# Altium footprint library Footprint.PcbLib: 155 footprints (part 7 of 10)
Each footprint in its own frame and in the unit in brackets; x right, y up, seen from the top. Pads: shape width x height; smd on the part's side, far side on the other; paste and mask are expansions set on the pad; w line width, h text height; cw(c..) or ccw(c..) is an arc to the next point about the centre after c.
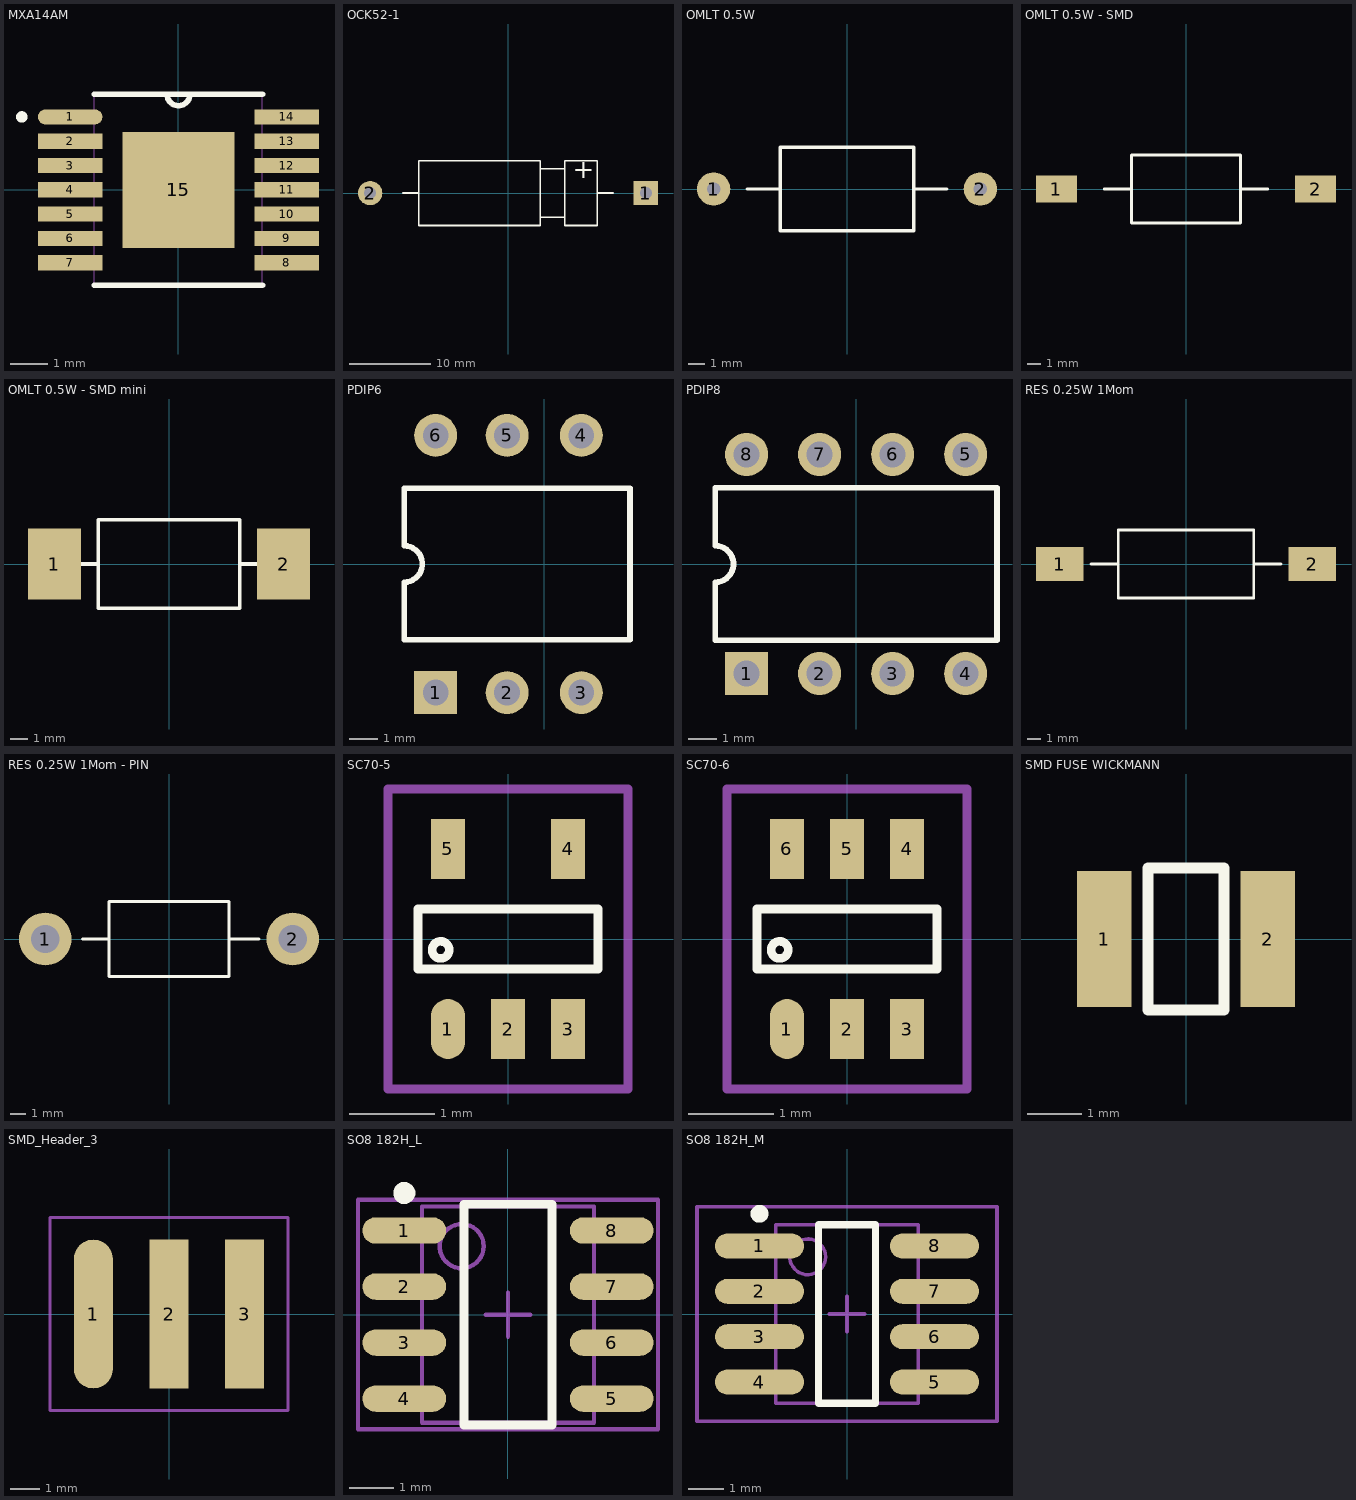
[diagram p6: the footprints below, top view; thin cyan lines are the x and y axes]

## MXA14AM [mil]
pads (15):
  oval 68x16 smd mask+2: 1(-114,76.77)
  rect 68x16 smd mask+2: 2(-114,51.18) 3(-114,25.59) 4(-114,0) 5(-114,-25.59) 6(-114,-51.18) 7(-114,-76.77) 8(114,-76.77) 9(114,-51.18) 10(114,-25.59) 11(114,0) 12(114,25.59) 13(114,51.18) 14(114,76.77)
  rect 118x122 smd: 15(0,0)
Top Overlay:
  circle w6: c-164.8,76.77 r3
  lines w6: -88.5,-100.5 88.5,-100.5 ; -88.5,100.5 88.5,100.5 ; -12,100.5 ccw(c0,100.5) 12,100.5
Mechanical 1:
  circle w1: c-164.8,76.77 r3
  lines w1: -12,100.5 ccw(c0,100.5) 12,100.5 ; -126,-82.77 -126,-70.77 -88.5,-70.77 -88.5,-82.77 -126,-82.77 ; -126,-57.18 -126,-45.18 -88.5,-45.18 -88.5,-57.18 -126,-57.18 ; -126,-31.59 -126,-19.59 -88.5,-19.59 -88.5,-31.59 -126,-31.59 ; -126,-6 -126,6 -88.5,6 -88.5,-6 -126,-6 ; -126,19.59 -126,31.59 -88.5,31.59 -88.5,19.59 -126,19.59 ; -126,45.18 -126,57.18 -88.5,57.18 -88.5,45.18 -126,45.18 ; -126,70.77 -126,82.77 -88.5,82.77 -88.5,70.77 -126,70.77 ; -88.5,-100.5 88.5,-100.5 88.5,100.5 -88.5,100.5 -88.5,-100.5 ; 88.5,-82.77 88.5,-70.77 126,-70.77 126,-82.77 88.5,-82.77 ; 88.5,-57.18 88.5,-45.18 126,-45.18 126,-57.18 88.5,-57.18 ; 88.5,-31.59 88.5,-19.59 126,-19.59 126,-31.59 88.5,-31.59 ; 88.5,-6 88.5,6 126,6 126,-6 88.5,-6 ; 88.5,19.59 88.5,31.59 126,31.59 126,19.59 88.5,19.59 ; 88.5,45.18 88.5,57.18 126,57.18 126,45.18 88.5,45.18 ; 88.5,70.77 88.5,82.77 126,82.77 126,70.77 88.5,70.77

## OCK52-1 [mm] "8x22 Советский танталовый общая длинна 34 мм"
height 8
pads (2):
  rect 3x3 hole 1.5: 1(17,0)
  round 3 hole 1.5: 2(-17,0)
Top Overlay:
  lines w0.2: -13,0 -11,0 ; 11,0 13,0 ; -11,0 -11,-4 4,-4 4,-3 ; -11,0 -11,4 4,4 4,3 ; 4,-3 4,3 ; 4,-3 7,-3 ; 4,3 7,3 ; 7,-3 7,3 ; 7,-3 7,-4 11,-4 11,4 7,4 7,3
  text "+" at 8,1 h4

## OMLT 0.5W [mm] "D=4.2mm, L=10.8mm, l=25mm, d=0.8mm"
pads (2):
  round 2 hole 0.8: 1(-8,0) 2(8,0)
Top Overlay:
  lines w0.2: -6,0 -4,0 ; 4,0 6,0 ; -4,-2.5 4,-2.5 4,2.5 -4,2.5 -4,-2.5

## OMLT 0.5W - SMD [mm] "D=4.2mm, L=10.8mm, l=25mm, d=0.8mm"
pads (2):
  rect 3x2 smd: 1(-9.5,0) 2(9.5,0)
Top Overlay:
  lines w0.2: -6,0 -4,0 ; 4,0 6,0 ; -4,-2.5 4,-2.5 4,2.5 -4,2.5 -4,-2.5

## OMLT 0.5W - SMD mini [mm] "D=4.2mm, L=10.8mm, l=25mm, d=0.8mm"
pads (2):
  rect 3x4 smd: 1(-6.5,0) 2(6.5,0)
Top Overlay:
  lines w0.2: -5,0 -4,0 ; 4,0 5,0 ; -4,-2.5 -4,2.5 4,2.5 4,-2.5 -4,-2.5

## PCBComponent_1 [mm]

## PDIP6 [mm] "6-Pin Plastic Dual In-Line Package (PDIP) Row Spacing 9 mm; Pitch 2.54 mm"
height 6.6
pads (6):
  rect 1.5x1.5 hole 0.9: 1(-3.8,-4.5)
  round 1.5 hole 0.9: 2(-1.3,-4.5) 3(1.3,-4.5) 4(1.3,4.5) 5(-1.3,4.5) 6(-3.8,4.5)
Top Overlay:
  lines w0.2: -4.9,-2.65 -4.9,-0.635 ccw(c-4.9,0) -4.9,0.635 -4.9,2.65 3,2.65 3,-2.65 -4.9,-2.65

## PDIP8 [mm] "8-Pin Plastic Dual In-Line Package (PDIP)"
height 4.32
pads (8):
  rect 1.5x1.5 hole 0.9: 1(-3.81,-3.81)
  round 1.5 hole 0.9: 2(-1.27,-3.81) 3(1.27,-3.81) 4(3.81,-3.81) 5(3.81,3.81) 6(1.27,3.81) 7(-1.27,3.81) 8(-3.81,3.81)
Top Overlay:
  lines w0.2: -4.9,-2.65 4.9,-2.65 4.9,2.65 -4.9,2.65 -4.9,0.635 cw(c-4.9,0) -4.9,-0.635 -4.9,-2.65

## RES 0.25W 1Mom [mm] "SMD"
pads (2):
  rect 3.5x2.5 smd: 1(-9.3,0) 2(9.3,0)
Top Overlay:
  lines w0.2: -7,0 -5,0 ; 5,0 7,0 ; -5,-2.5 -5,2.5 5,2.5 5,-2.5 -5,-2.5

## RES 0.25W 1Mom - PIN [mm] "Pin"
pads (2):
  round 3.5 hole 1.9: 1(-8.25,0) 2(8.25,0)
Top Overlay:
  lines w0.2: -5.75,0 -4,0 ; 4,0 6,0 ; -4,-2.5 4,-2.5 4,2.5 -4,2.5 -4,-2.5

## SC70-5 [mm] "2.4mm x 2.2mm"
pads (5):
  oval 0.4x0.7 smd: 1(-0.7,-1.05)
  rect 0.4x0.7 smd: 2(0,-1.05) 3(0.7,-1.05) 4(0.7,1.05) 5(-0.7,1.05)
Top Overlay:
  circle w0.1: c-0.786,-0.127 r0.1
  lines w0.1: -1.05,-0.35 -1.05,0.35 1.05,0.35 1.05,-0.35 -1.05,-0.35
Mechanical 15:
  lines w0.1: -1.4,-1.75 -1.4,1.75 -1.05,1.75 1.4,1.75 1.4,-1.75 -1.4,-1.75

## SC70-6 [mm] "2.4mm x 2.2mm"
pads (6):
  oval 0.4x0.7 smd: 1(-0.7,-1.05)
  rect 0.4x0.7 smd: 2(0,-1.05) 3(0.7,-1.05) 4(0.7,1.05) 5(0,1.05) 6(-0.7,1.05)
Top Overlay:
  circle w0.1: c-0.786,-0.127 r0.1
  lines w0.1: -1.05,-0.35 -1.05,0.35 1.05,0.35 1.05,-0.35 -1.05,-0.35
Mechanical 15:
  lines w0.1: -1.4,-1.75 -1.4,1.75 -1.05,1.75 1.4,1.75 1.4,-1.75 -1.4,-1.75

## SMD FUSE WICKMANN [mm] "Предохранитель СМД"
pads (2):
  rect 1x2.5 smd: 1(-1.5,0) 2(1.5,0)
Top Overlay:
  lines w0.2: -0.7,-1.3 0.7,-1.3 0.7,1.3 -0.7,1.3 -0.7,-1.3

## SMD_Header_3 [mm] "SMD - 3 Pin, Header"
height 2.54
pads (3):
  oval 1.3x5 smd: 1(-2.54,0)
  rect 1.3x5 smd: 2(0,0) 3(2.54,0)
Mechanical 15:
  lines w0.1: -4,-3.25 4,-3.25 4,3.25 -4,3.25 -4,-3.25

## SO8 182H_L [mm] "SOIC, 8-Leads, Body 4.9x3.9mm, Pitch 1.27mm, IPC High Density"
height 1.75
pads (8):
  oval 1.9x0.6 smd: 1(-2.35,1.905) 2(-2.35,0.635) 3(-2.35,-0.635) 4(-2.35,-1.905) 5(2.35,-1.905) 6(2.35,-0.635) 7(2.35,0.635) 8(2.35,1.905)
Top Overlay:
  circle w0.25: c-2.35,2.755 r0.125
  lines w0.2: -1,-2.5 -1,2.5 1,2.5 1,-2.5 -1,-2.5
Mechanical 13:
  circle w0.1: c-1.05,1.55 r0.5
  lines w0.1: -1.95,-2.45 -1.95,2.45 1.95,2.45 1.95,-2.45 -1.95,-2.45
Mechanical 15:
  lines w0.1: -0.5,0 0.5,0 ; 0,-0.5 0,0.5 ; -3.4,-2.6 -3.4,2.6 3.4,2.6 3.4,-2.6 -3.4,-2.6
3D body: height 1.75, standoff 0, extent -1.95,-2.45 1.95,2.45

## SO8 182H_M [mm] "SOIC, 8-Leads, Body 4.9x3.9mm, Pitch 1.27mm, IPC Low Density"
height 1.75
pads (8):
  oval 2.5x0.7 smd: 1(-2.45,1.905) 2(-2.45,0.635) 3(-2.45,-0.635) 4(-2.45,-1.905) 5(2.45,-1.905) 6(2.45,-0.635) 7(2.45,0.635) 8(2.45,1.905)
Top Overlay:
  circle w0.25: c-2.45,2.805 r0.125
  lines w0.2: -0.8,-2.5 0.8,-2.5 0.8,2.5 -0.8,2.5 -0.8,-2.5
Mechanical 13:
  circle w0.1: c-1.1,1.6 r0.5
  lines w0.1: -2,-2.5 2,-2.5 2,2.5 -2,2.5 -2,-2.5
Mechanical 15:
  lines w0.1: -0.5,0 0.5,0 ; 0,-0.5 0,0.5 ; -4.2,-3 4.2,-3 4.2,3 -4.2,3 -4.2,-3
3D body: height 1.75, standoff 0, extent -2,-2.5 2,2.5